# EAGLE library part ATTINY10 (library Microchip)
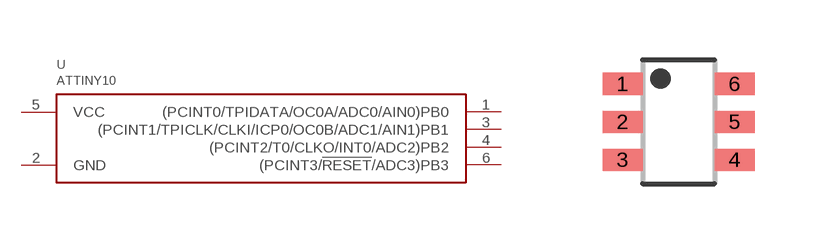
[diagram p16: symbol with the pads of SOT23-6; footprint SOT23-6]

Designator prefix U

## ATTINY10  [SOT23-6]
1  (PCINT0/TPIDATA/OC0A/ADC0/AIN0)PB0
2  GND  pwr
3  (PCINT1/TPICLK/CLKI/ICP0/OC0B/ADC1/AIN1)PB1
4  (PCINT2/T0/CLKO/INT0/ADC2)PB2
5  VCC  pwr
6  (PCINT3/!RESET!/ADC3)PB3

## Footprint SOT23-6 (pad centres in mm)
smd 1 x 0.55: 1 -1.4,0.95; 2 -1.4,0; 3 -1.4,-0.95; 4 1.4,-0.95; 5 1.4,0; 6 1.4,0.95